# EAGLE library part LED_CREE-SMT-RGB (library Chromation)
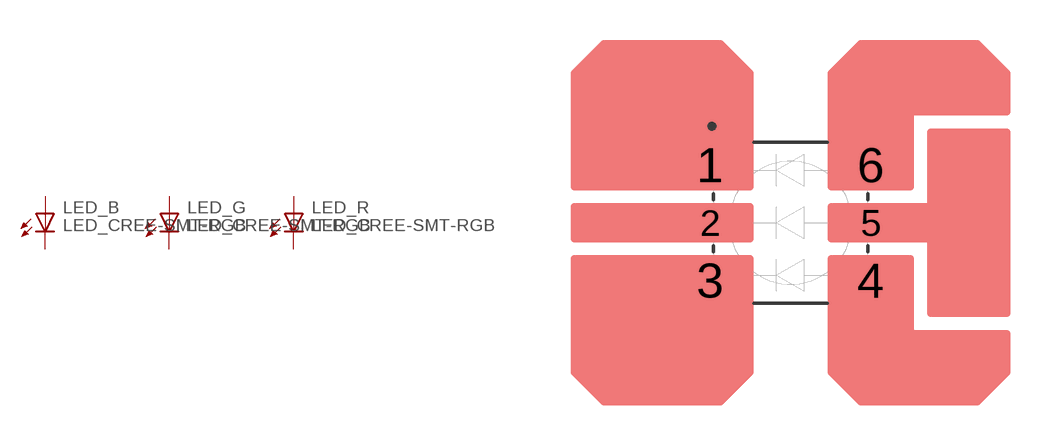
[diagram p15: symbol with the pads of LED-SLV6A; footprint LED-SLV6A]

Designator prefix LED; gates _B=LED _G=LED _R=LED

## LED_CREE-SMT-RGBSLV6A  [LED-SLV6A]
1  _B:C
2  _G:C
3  _R:C
4  _R:A
5  _G:A
6  _B:A

## Footprint LED-SLV6A (pad centres in mm)
smd 2.7 x 1.7: 1 -2.75,1.975; 3 -2.75,-1.975; 4 2.75,-1.975; 6 2.75,1.975
smd 2.7 x 1.3: 2 -2.75,0; 5 2.75,0